# Altium footprint library nuc972lib.PcbLib: 1 footprints
Each footprint in its own frame and in the unit in brackets; x right, y up, seen from the top. Pads: shape width x height; smd on the part's side, far side on the other; paste and mask are expansions set on the pad; w line width, h text height; cw(c..) or ccw(c..) is an arc to the next point about the centre after c.
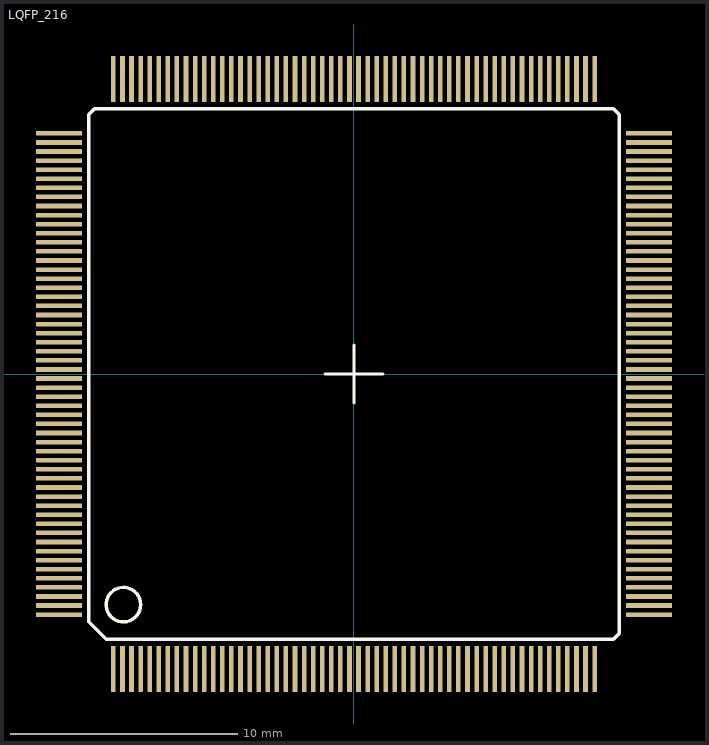
[diagram p0: the footprint, top view; thin cyan lines are the x and y axes]

## LQFP_216 [mil]
pads (216):
  rect 8x80 smd: 1(-417.32,-511.81) 2(-401.57,-511.81) 3(-385.83,-511.81) 4(-370.08,-511.81) 5(-354.33,-511.81) 6(-338.58,-511.81) 7(-322.83,-511.81) 8(-307.09,-511.81) 9(-291.34,-511.81) 10(-275.59,-511.81) 11(-259.84,-511.81) 12(-244.09,-511.81) 13(-228.35,-511.81) 14(-212.6,-511.81) 15(-196.85,-511.81) 16(-181.1,-511.81) 17(-165.35,-511.81) 18(-149.61,-511.81) 19(-133.86,-511.81) 20(-118.11,-511.81) 21(-102.36,-511.81) 22(-86.61,-511.81) 23(-70.87,-511.81) 24(-55.12,-511.81) 25(-39.37,-511.81) 26(-23.62,-511.81) 27(-7.87,-511.81) 28(7.87,-511.81) 29(23.62,-511.81) 30(39.37,-511.81) 31(55.12,-511.81) 32(70.87,-511.81) 33(86.61,-511.81) 34(102.36,-511.81) 35(118.11,-511.81) 36(133.86,-511.81) 37(149.61,-511.81) 38(165.35,-511.81) 39(181.1,-511.81) 40(196.85,-511.81) 41(212.6,-511.81) 42(228.35,-511.81) 43(244.09,-511.81) 44(259.84,-511.81) 45(275.59,-511.81) 46(291.34,-511.81) 47(307.09,-511.81) 48(322.83,-511.81) 49(338.58,-511.81) 50(354.33,-511.81) 51(370.08,-511.81) 52(385.83,-511.81) 53(401.57,-511.81) 54(417.32,-511.81) 109(417.32,511.81) 110(401.57,511.81) 111(385.83,511.81) 112(370.08,511.81) 113(354.33,511.81) 114(338.58,511.81) 115(322.83,511.81) 116(307.09,511.81) 117(291.34,511.81) 118(275.59,511.81) 119(259.84,511.81) 120(244.09,511.81) 121(228.35,511.81) 122(212.6,511.81) 123(196.85,511.81) 124(181.1,511.81) 125(165.35,511.81) 126(149.61,511.81) 127(133.86,511.81) 128(118.11,511.81) 129(102.36,511.81) 130(86.61,511.81) 131(70.87,511.81) 132(55.12,511.81) 133(39.37,511.81) 134(23.62,511.81) 135(7.87,511.81) 136(-7.87,511.81) 137(-23.62,511.81) 138(-39.37,511.81) 139(-55.12,511.81) 140(-70.87,511.81) 141(-86.61,511.81) 142(-102.36,511.81) 143(-118.11,511.81) 144(-133.86,511.81) 145(-149.61,511.81) 146(-165.35,511.81) 147(-181.1,511.81) 148(-196.85,511.81) 149(-212.6,511.81) 150(-228.35,511.81) 151(-244.09,511.81) 152(-259.84,511.81) 153(-275.59,511.81) 154(-291.34,511.81) 155(-307.09,511.81) 156(-322.83,511.81) 157(-338.58,511.81) 158(-354.33,511.81) 159(-370.08,511.81) 160(-385.83,511.81) 161(-401.57,511.81) 162(-417.32,511.81)
  rect 80x8 smd: 55(511.81,-417.32) 56(511.81,-401.57) 57(511.81,-385.83) 58(511.81,-370.08) 59(511.81,-354.33) 60(511.81,-338.58) 61(511.81,-322.83) 62(511.81,-307.09) 63(511.81,-291.34) 64(511.81,-275.59) 65(511.81,-259.84) 66(511.81,-244.09) 67(511.81,-228.35) 68(511.81,-212.6) 69(511.81,-196.85) 70(511.81,-181.1) 71(511.81,-165.35) 72(511.81,-149.61) 73(511.81,-133.86) 74(511.81,-118.11) 75(511.81,-102.36) 76(511.81,-86.61) 77(511.81,-70.87) 78(511.81,-55.12) 79(511.81,-39.37) 80(511.81,-23.62) 81(511.81,-7.87) 82(511.81,7.87) 83(511.81,23.62) 84(511.81,39.37) 85(511.81,55.12) 86(511.81,70.87) 87(511.81,86.61) 88(511.81,102.36) 89(511.81,118.11) 90(511.81,133.86) 91(511.81,149.61) 92(511.81,165.35) 93(511.81,181.1) 94(511.81,196.85) 95(511.81,212.6) 96(511.81,228.35) 97(511.81,244.09) 98(511.81,259.84) 99(511.81,275.59) 100(511.81,291.34) 101(511.81,307.09) 102(511.81,322.83) 103(511.81,338.58) 104(511.81,354.33) 105(511.81,370.08) 106(511.81,385.83) 107(511.81,401.57) 108(511.81,417.32) 163(-511.81,417.32) 164(-511.81,401.57) 165(-511.81,385.83) 166(-511.81,370.08) 167(-511.81,354.33) 168(-511.81,338.58) 169(-511.81,322.83) 170(-511.81,307.09) 171(-511.81,291.34) 172(-511.81,275.59) 173(-511.81,259.84) 174(-511.81,244.09) 175(-511.81,228.35) 176(-511.81,212.6) 177(-511.81,196.85) 178(-511.81,181.1) 179(-511.81,165.35) 180(-511.81,149.61) 181(-511.81,133.86) 182(-511.81,118.11) 183(-511.81,102.36) 184(-511.81,86.61) 185(-511.81,70.87) 186(-511.81,55.12) 187(-511.81,39.37) 188(-511.81,23.62) 189(-511.81,7.87) 190(-511.81,-7.87) 191(-511.81,-23.62) 192(-511.81,-39.37) 193(-511.81,-55.12) 194(-511.81,-70.87) 195(-511.81,-86.61) 196(-511.81,-102.36) 197(-511.81,-118.11) 198(-511.81,-133.86) 199(-511.81,-149.61) 200(-511.81,-165.35) 201(-511.81,-181.1) 202(-511.81,-196.85) 203(-511.81,-212.6) 204(-511.81,-228.35) 205(-511.81,-244.09) 206(-511.81,-259.84) 207(-511.81,-275.59) 208(-511.81,-291.34) 209(-511.81,-307.09) 210(-511.81,-322.83) 211(-511.81,-338.58) 212(-511.81,-354.33) 213(-511.81,-370.08) 214(-511.81,-385.83) 215(-511.81,-401.57) 216(-511.81,-417.32)
Top Overlay:
  circle w6: c-400,-400 r30
  lines w6: -50,0 50,0 ; 0,-50 0,50 ; -460,-430 -430,-460 450,-460 460,-450 460,450 450,460 -450,460 -460,450 -460,-430
3D body: height 68.9, standoff 0, extent -512.08,-512.21 512.42,512.29